# Altium footprint library SDP21_Daughter_Board_Footprints.PcbLib: 6 footprints
Each footprint in its own frame and in the unit in brackets; x right, y up, seen from the top. Pads: shape width x height; smd on the part's side, far side on the other; paste and mask are expansions set on the pad; w line width, h text height; cw(c..) or ccw(c..) is an arc to the next point about the centre after c.
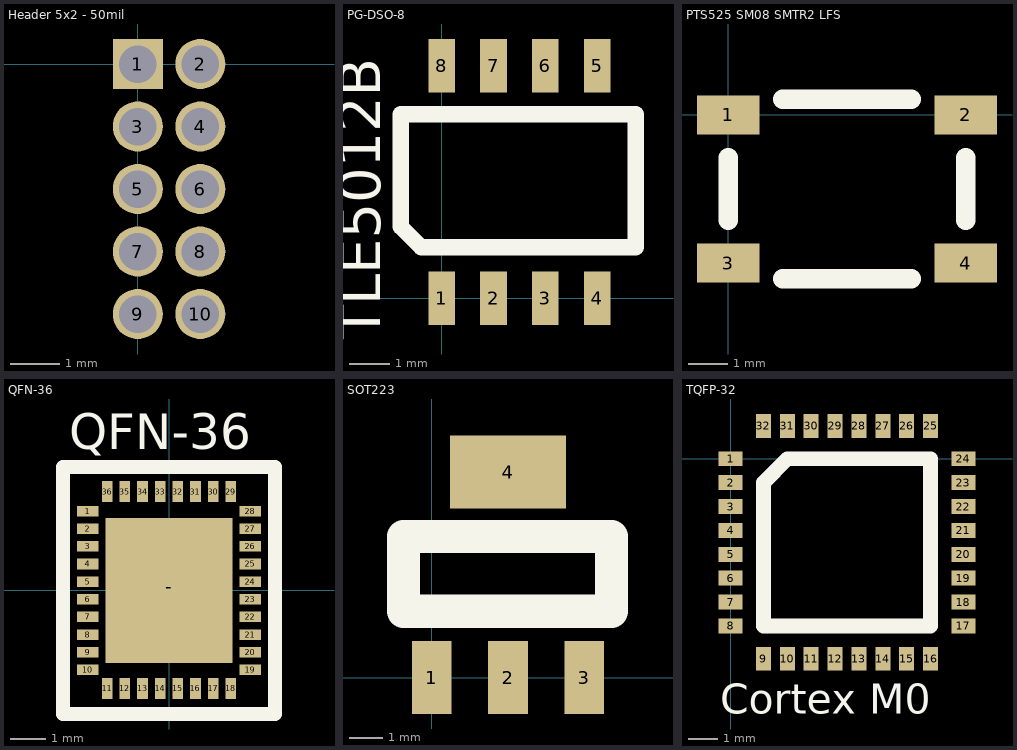
[diagram p0: the footprints below, top view; thin cyan lines are the x and y axes]

## Header 5x2 - 50mil [mil]
pads (10):
  rect 40x40 hole 30: 1(0,0)
  round 40 hole 30: 2(50,0) 3(0,-50) 4(50,-50) 5(0,-100) 6(50,-100) 7(0,-150) 8(50,-150) 9(0,-200) 10(50,-200)

## PG-DSO-8 [mm]
pads (8):
  rect 0.65x1.31 smd: 1(0,0) 2(1.27,0) 3(2.54,0) 4(3.81,0) 5(3.81,5.69) 6(2.54,5.69) 7(1.27,5.69) 8(0,5.69)
Top Overlay:
  lines w0.4: -1,1.75 -0.5,1.25 4.75,1.25 4.75,4.5 -1,4.5 -1,1.75
  text "TLE5012B" at -1.5,-1 h1

## PTS525 SM08 SMTR2 LFS [mm]
pads (4):
  rect 1.6x1 smd: 1(0,0) 2(6.1,0) 3(0,-3.8) 4(6.1,-3.8)
Top Overlay:
  lines w0.5: 0,-2.7 0,-1.1 ; 1.4,-4.2 4.7,-4.2 ; 1.4,0.4 4.7,0.4 ; 6.1,-2.7 6.1,-1.1

## QFN-36 [mm]
pads (37):
  rect 0.6x0.3 smd mask+0: 1(-2.3,2.25) 2(-2.3,1.75) 3(-2.3,1.25) 4(-2.3,0.75) 5(-2.3,0.25) 6(-2.3,-0.25) 7(-2.3,-0.75) 8(-2.3,-1.25) 9(-2.3,-1.75) 10(-2.3,-2.25) 19(2.3,-2.25) 20(2.3,-1.75) 21(2.3,-1.25) 22(2.3,-0.75) 23(2.3,-0.25) 24(2.3,0.25) 25(2.3,0.75) 26(2.3,1.25) 27(2.3,1.75) 28(2.3,2.25)
  rect 0.3x0.6 smd mask+0: 11(-1.75,-2.775) 12(-1.25,-2.775) 13(-0.75,-2.775) 14(-0.25,-2.775) 15(0.25,-2.775) 16(0.75,-2.775) 17(1.25,-2.775) 18(1.75,-2.775) 29(1.75,2.8) 30(1.25,2.8) 31(0.75,2.8) 32(0.25,2.8) 33(-0.25,2.8) 34(-0.75,2.8) 35(-1.25,2.8) 36(-1.75,2.8)
  rect 3.6x4.1 smd mask+0: -(0,0)
Top Overlay:
  lines w0.4: -3,-3.5 -3,3.5 3,3.5 3,-3.5 -3,-3.5
  text "QFN-36" at -2.832,4 h1

## SOT223 [mm]
pads (4):
  rect 1.2x2.2 smd: 1(0,0) 2(2.3,0) 3(4.6,0)
  rect 3.5x2.2 smd: 4(2.3,6.2)
Top Overlay:
  lines w1: -0.85,2 5.425,2 5.425,4.25 -0.85,4.25 -0.85,2

## TQFP-32 [mm]
pads (32):
  rect 0.8x0.5 smd mask+0: 1(0,0) 2(0,-0.8) 3(0,-1.6) 4(0,-2.4) 5(0,-3.2) 6(0,-4) 7(0,-4.8) 8(0,-5.6) 17(7.8,-5.6) 18(7.8,-4.8) 19(7.8,-4) 20(7.8,-3.2) 21(7.8,-2.4) 22(7.8,-1.6) 23(7.8,-0.8) 24(7.8,0)
  rect 0.5x0.8 smd mask+0: 9(1.1,-6.7) 10(1.9,-6.7) 11(2.7,-6.7) 12(3.5,-6.7) 13(4.3,-6.7) 14(5.1,-6.7) 15(5.9,-6.7) 16(6.7,-6.7) 25(6.7,1.1) 26(5.9,1.1) 27(5.1,1.1) 28(4.3,1.1) 29(3.5,1.1) 30(2.7,1.1) 31(1.9,1.1) 32(1.1,1.1)
Top Overlay:
  lines w0.5: 1.1,-5.6 6.7,-5.6 6.7,0 1.9,0 1.1,-0.8 1.1,-5.6
  text "Cortex M0" at -0.35,-8.55 h1